# Altium footprint library Package_QFP.PcbLib: 99 footprints (part 3 of 7)
Each footprint in its own frame and in the unit in brackets; x right, y up, seen from the top. Pads: shape width x height; smd on the part's side, far side on the other; paste and mask are expansions set on the pad; w line width, h text height; cw(c..) or ccw(c..) is an arc to the next point about the centre after c.
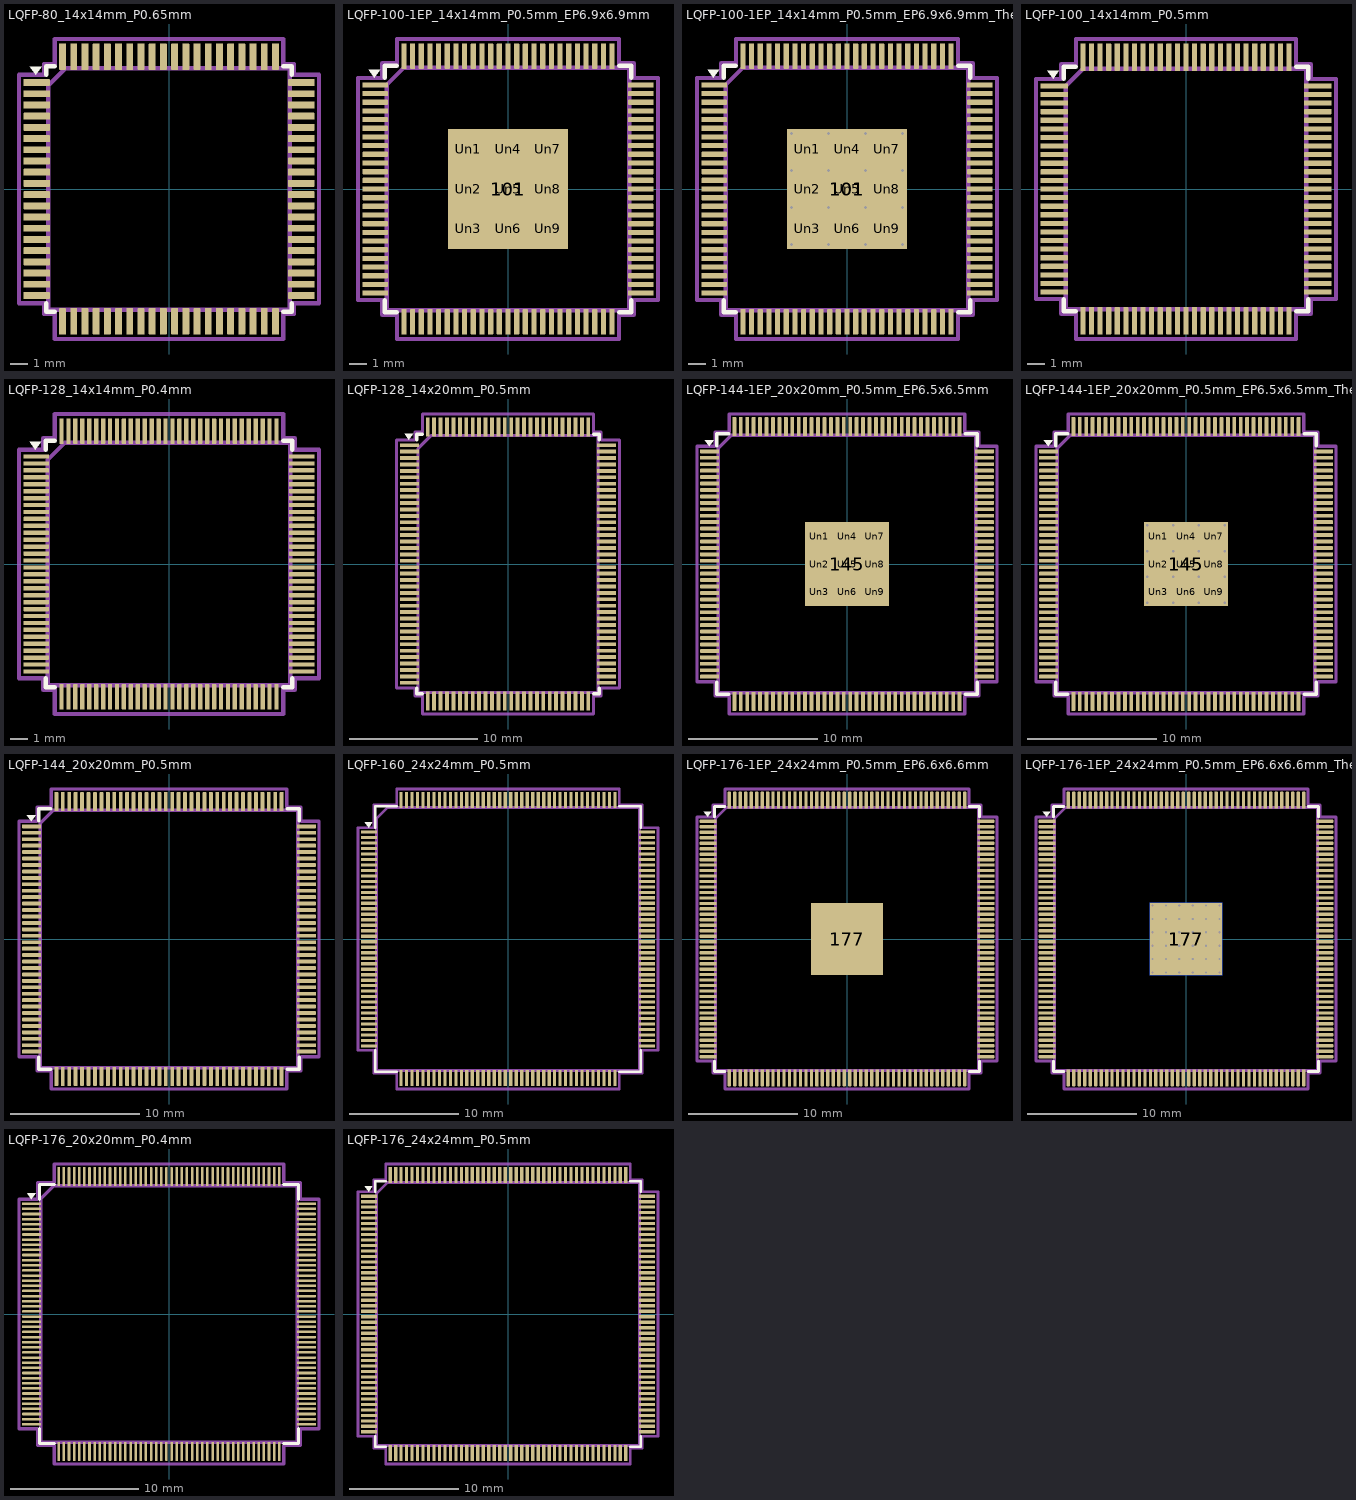
[diagram p2: the footprints below, top view; thin cyan lines are the x and y axes]

## LQFP-80_14x14mm_P0.65mm [mm]
pads (80):
  rrect25% 1.55x0.4 smd: 1(-7.675,6.175) 2(-7.675,5.525) 3(-7.675,4.875) 4(-7.675,4.225) 5(-7.675,3.575) 6(-7.675,2.925) 7(-7.675,2.275) 8(-7.675,1.625) 9(-7.675,0.975) 10(-7.675,0.325) 11(-7.675,-0.325) 12(-7.675,-0.975) 13(-7.675,-1.625) 14(-7.675,-2.275) 15(-7.675,-2.925) 16(-7.675,-3.575) 17(-7.675,-4.225) 18(-7.675,-4.875) 19(-7.675,-5.525) 20(-7.675,-6.175) 41(7.675,-6.175) 42(7.675,-5.525) 43(7.675,-4.875) 44(7.675,-4.225) 45(7.675,-3.575) 46(7.675,-2.925) 47(7.675,-2.275) 48(7.675,-1.625) 49(7.675,-0.975) 50(7.675,-0.325) 51(7.675,0.325) 52(7.675,0.975) 53(7.675,1.625) 54(7.675,2.275) 55(7.675,2.925) 56(7.675,3.575) 57(7.675,4.225) 58(7.675,4.875) 59(7.675,5.525) 60(7.675,6.175)
  rrect25% 0.4x1.55 smd: 21(-6.175,-7.675) 22(-5.525,-7.675) 23(-4.875,-7.675) 24(-4.225,-7.675) 25(-3.575,-7.675) 26(-2.925,-7.675) 27(-2.275,-7.675) 28(-1.625,-7.675) 29(-0.975,-7.675) 30(-0.325,-7.675) 31(0.325,-7.675) 32(0.975,-7.675) 33(1.625,-7.675) 34(2.275,-7.675) 35(2.925,-7.675) 36(3.575,-7.675) 37(4.225,-7.675) 38(4.875,-7.675) 39(5.525,-7.675) 40(6.175,-7.675) 61(6.175,7.675) 62(5.525,7.675) 63(4.875,7.675) 64(4.225,7.675) 65(3.575,7.675) 66(2.925,7.675) 67(2.275,7.675) 68(1.625,7.675) 69(0.975,7.675) 70(0.325,7.675) 71(-0.325,7.675) 72(-0.975,7.675) 73(-1.625,7.675) 74(-2.275,7.675) 75(-2.925,7.675) 76(-3.575,7.675) 77(-4.225,7.675) 78(-4.875,7.675) 79(-5.525,7.675) 80(-6.175,7.675)
F.SilkS:
  region: -7.725,6.635 -8.065,7.105 -7.385,7.105
  lines w0.254: -7.11,-6.635 -7.11,-7.11 -6.635,-7.11 ; -7.11,6.635 -7.11,7.11 -6.635,7.11 ; 6.635,-7.11 7.11,-7.11 7.11,-6.635 ; 6.635,7.11 7.11,7.11 7.11,6.635
Top Assembly:
  lines w0.254: -7,-7 7,-7 7,7 -6,7 -7,6 -7,-7
  text "'.Designator'" at -4.047,-0.84 h1
Top Courtyard:
  lines w0.254: -8.7,-6.63 -7.25,-6.63 -7.25,-7.25 -6.63,-7.25 -6.63,-8.7 6.63,-8.7 6.63,-7.25 7.25,-7.25 7.25,-6.63 8.7,-6.63 8.7,6.63 7.25,6.63 7.25,7.25 6.63,7.25 6.63,8.7 -6.63,8.7 -6.63,7.25 -7.25,7.25 -7.25,6.63 -8.7,6.63 -8.7,-6.63
Top Designator:
  text ".Designator" at -7.618,-0.508 h1.52

## LQFP-100-1EP_14x14mm_P0.5mm_EP6.9x6.9mm [mm]
pads (110):
  rrect25% 1.475x0.3 smd: 1(-7.662,6) 2(-7.662,5.5) 3(-7.662,5) 4(-7.662,4.5) 5(-7.662,4) 6(-7.662,3.5) 7(-7.662,3) 8(-7.662,2.5) 9(-7.662,2) 10(-7.662,1.5) 11(-7.662,1) 12(-7.662,0.5) 13(-7.662,0) 14(-7.662,-0.5) 15(-7.662,-1) 16(-7.662,-1.5) 17(-7.662,-2) 18(-7.662,-2.5) 19(-7.662,-3) 20(-7.662,-3.5) 21(-7.662,-4) 22(-7.662,-4.5) 23(-7.662,-5) 24(-7.662,-5.5) 25(-7.662,-6) 51(7.662,-6) 52(7.662,-5.5) 53(7.662,-5) 54(7.662,-4.5) 55(7.662,-4) 56(7.662,-3.5) 57(7.662,-3) 58(7.662,-2.5) 59(7.662,-2) 60(7.662,-1.5) 61(7.662,-1) 62(7.662,-0.5) 63(7.662,0) 64(7.662,0.5) 65(7.662,1) 66(7.662,1.5) 67(7.662,2) 68(7.662,2.5) 69(7.662,3) 70(7.662,3.5) 71(7.662,4) 72(7.662,4.5) 73(7.662,5) 74(7.662,5.5) 75(7.662,6)
  rrect25% 0.3x1.475 smd: 26(-6,-7.662) 27(-5.5,-7.662) 28(-5,-7.662) 29(-4.5,-7.662) 30(-4,-7.662) 31(-3.5,-7.662) 32(-3,-7.662) 33(-2.5,-7.662) 34(-2,-7.662) 35(-1.5,-7.662) 36(-1,-7.662) 37(-0.5,-7.662) 38(0,-7.662) 39(0.5,-7.662) 40(1,-7.662) 41(1.5,-7.662) 42(2,-7.662) 43(2.5,-7.662) 44(3,-7.662) 45(3.5,-7.662) 46(4,-7.662) 47(4.5,-7.662) 48(5,-7.662) 49(5.5,-7.662) 50(6,-7.662) 76(6,7.662) 77(5.5,7.662) 78(5,7.662) 79(4.5,7.662) 80(4,7.662) 81(3.5,7.662) 82(3,7.662) 83(2.5,7.662) 84(2,7.662) 85(1.5,7.662) 86(1,7.662) 87(0.5,7.662) 88(0,7.662) 89(-0.5,7.662) 90(-1,7.662) 91(-1.5,7.662) 92(-2,7.662) 93(-2.5,7.662) 94(-3,7.662) 95(-3.5,7.662) 96(-4,7.662) 97(-4.5,7.662) 98(-5,7.662) 99(-5.5,7.662) 100(-6,7.662)
  rect 6.9x6.9 smd: 101(0,0)
  rrect14% 1.85x1.85 on Top Paste: Un1(-2.3,2.3) Un2(-2.3,0) Un3(-2.3,-2.3) Un4(0,2.3) Un5(0,0) Un6(0,-2.3) Un7(2.3,2.3) Un8(2.3,0) Un9(2.3,-2.3)
F.SilkS:
  region: -7.7,6.41 -8.04,6.88 -7.36,6.88
  lines w0.254: -7.11,-6.41 -7.11,-7.11 -6.41,-7.11 ; -7.11,6.41 -7.11,7.11 -6.41,7.11 ; 6.41,-7.11 7.11,-7.11 7.11,-6.41 ; 6.41,7.11 7.11,7.11 7.11,6.41
Top Assembly:
  lines w0.254: -7,-7 7,-7 7,7 -6,7 -7,6 -7,-7
  text "'.Designator'" at -4.047,-0.84 h1
Top Courtyard:
  lines w0.254: -8.65,-6.4 -7.25,-6.4 -7.25,-7.25 -6.4,-7.25 -6.4,-8.65 6.4,-8.65 6.4,-7.25 7.25,-7.25 7.25,-6.4 8.65,-6.4 8.65,6.4 7.25,6.4 7.25,7.25 6.4,7.25 6.4,8.65 -6.4,8.65 -6.4,7.25 -7.25,7.25 -7.25,6.4 -8.65,6.4 -8.65,-6.4
Top Designator:
  text ".Designator" at -7.618,-0.508 h1.52

## LQFP-100-1EP_14x14mm_P0.5mm_EP6.9x6.9mm_ThermalVias [mm]
pads (127):
  rrect25% 1.475x0.3 smd: 1(-7.662,6) 2(-7.662,5.5) 3(-7.662,5) 4(-7.662,4.5) 5(-7.662,4) 6(-7.662,3.5) 7(-7.662,3) 8(-7.662,2.5) 9(-7.662,2) 10(-7.662,1.5) 11(-7.662,1) 12(-7.662,0.5) 13(-7.662,0) 14(-7.662,-0.5) 15(-7.662,-1) 16(-7.662,-1.5) 17(-7.662,-2) 18(-7.662,-2.5) 19(-7.662,-3) 20(-7.662,-3.5) 21(-7.662,-4) 22(-7.662,-4.5) 23(-7.662,-5) 24(-7.662,-5.5) 25(-7.662,-6) 51(7.662,-6) 52(7.662,-5.5) 53(7.662,-5) 54(7.662,-4.5) 55(7.662,-4) 56(7.662,-3.5) 57(7.662,-3) 58(7.662,-2.5) 59(7.662,-2) 60(7.662,-1.5) 61(7.662,-1) 62(7.662,-0.5) 63(7.662,0) 64(7.662,0.5) 65(7.662,1) 66(7.662,1.5) 67(7.662,2) 68(7.662,2.5) 69(7.662,3) 70(7.662,3.5) 71(7.662,4) 72(7.662,4.5) 73(7.662,5) 74(7.662,5.5) 75(7.662,6)
  rrect25% 0.3x1.475 smd: 26(-6,-7.662) 27(-5.5,-7.662) 28(-5,-7.662) 29(-4.5,-7.662) 30(-4,-7.662) 31(-3.5,-7.662) 32(-3,-7.662) 33(-2.5,-7.662) 34(-2,-7.662) 35(-1.5,-7.662) 36(-1,-7.662) 37(-0.5,-7.662) 38(0,-7.662) 39(0.5,-7.662) 40(1,-7.662) 41(1.5,-7.662) 42(2,-7.662) 43(2.5,-7.662) 44(3,-7.662) 45(3.5,-7.662) 46(4,-7.662) 47(4.5,-7.662) 48(5,-7.662) 49(5.5,-7.662) 50(6,-7.662) 76(6,7.662) 77(5.5,7.662) 78(5,7.662) 79(4.5,7.662) 80(4,7.662) 81(3.5,7.662) 82(3,7.662) 83(2.5,7.662) 84(2,7.662) 85(1.5,7.662) 86(1,7.662) 87(0.5,7.662) 88(0,7.662) 89(-0.5,7.662) 90(-1,7.662) 91(-1.5,7.662) 92(-2,7.662) 93(-2.5,7.662) 94(-3,7.662) 95(-3.5,7.662) 96(-4,7.662) 97(-4.5,7.662) 98(-5,7.662) 99(-5.5,7.662) 100(-6,7.662)
  round 0.5 hole 0.2: 101(-3.2,-3.2) 101(-3.2,-1.067) 101(-3.2,1.067) 101(-3.2,3.2) 101(-1.067,-3.2) 101(-1.067,-1.067) 101(-1.067,1.067) 101(-1.067,3.2) 101(1.067,-3.2) 101(1.067,-1.067) 101(1.067,1.067) 101(1.067,3.2) 101(3.2,-3.2) 101(3.2,-1.067) 101(3.2,1.067) 101(3.2,3.2)
  rect 6.9x6.9 smd: 101(0,0)
  rect 6.9x6.9 smd far side: 101(0,0)
  rrect14% 1.85x1.85 on Top Paste: Un1(-2.3,2.3) Un2(-2.3,0) Un3(-2.3,-2.3) Un4(0,2.3) Un5(0,0) Un6(0,-2.3) Un7(2.3,2.3) Un8(2.3,0) Un9(2.3,-2.3)
F.SilkS:
  region: -7.7,6.41 -8.04,6.88 -7.36,6.88
  lines w0.254: -7.11,-6.41 -7.11,-7.11 -6.41,-7.11 ; -7.11,6.41 -7.11,7.11 -6.41,7.11 ; 6.41,-7.11 7.11,-7.11 7.11,-6.41 ; 6.41,7.11 7.11,7.11 7.11,6.41
Top Assembly:
  lines w0.254: -7,-7 7,-7 7,7 -6,7 -7,6 -7,-7
  text "'.Designator'" at -4.047,-0.84 h1
Top Courtyard:
  lines w0.254: -8.65,-6.4 -7.25,-6.4 -7.25,-7.25 -6.4,-7.25 -6.4,-8.65 6.4,-8.65 6.4,-7.25 7.25,-7.25 7.25,-6.4 8.65,-6.4 8.65,6.4 7.25,6.4 7.25,7.25 6.4,7.25 6.4,8.65 -6.4,8.65 -6.4,7.25 -7.25,7.25 -7.25,6.4 -8.65,6.4 -8.65,-6.4
Top Designator:
  text ".Designator" at -7.618,-0.508 h1.52

## LQFP-100_14x14mm_P0.5mm [mm]
pads (100):
  rrect25% 1.6x0.3 smd: 1(-7.675,6) 2(-7.675,5.5) 3(-7.675,5) 4(-7.675,4.5) 5(-7.675,4) 6(-7.675,3.5) 7(-7.675,3) 8(-7.675,2.5) 9(-7.675,2) 10(-7.675,1.5) 11(-7.675,1) 12(-7.675,0.5) 13(-7.675,0) 14(-7.675,-0.5) 15(-7.675,-1) 16(-7.675,-1.5) 17(-7.675,-2) 18(-7.675,-2.5) 19(-7.675,-3) 20(-7.675,-3.5) 21(-7.675,-4) 22(-7.675,-4.5) 23(-7.675,-5) 24(-7.675,-5.5) 25(-7.675,-6) 51(7.675,-6) 52(7.675,-5.5) 53(7.675,-5) 54(7.675,-4.5) 55(7.675,-4) 56(7.675,-3.5) 57(7.675,-3) 58(7.675,-2.5) 59(7.675,-2) 60(7.675,-1.5) 61(7.675,-1) 62(7.675,-0.5) 63(7.675,0) 64(7.675,0.5) 65(7.675,1) 66(7.675,1.5) 67(7.675,2) 68(7.675,2.5) 69(7.675,3) 70(7.675,3.5) 71(7.675,4) 72(7.675,4.5) 73(7.675,5) 74(7.675,5.5) 75(7.675,6)
  rrect25% 0.3x1.6 smd: 26(-6,-7.675) 27(-5.5,-7.675) 28(-5,-7.675) 29(-4.5,-7.675) 30(-4,-7.675) 31(-3.5,-7.675) 32(-3,-7.675) 33(-2.5,-7.675) 34(-2,-7.675) 35(-1.5,-7.675) 36(-1,-7.675) 37(-0.5,-7.675) 38(0,-7.675) 39(0.5,-7.675) 40(1,-7.675) 41(1.5,-7.675) 42(2,-7.675) 43(2.5,-7.675) 44(3,-7.675) 45(3.5,-7.675) 46(4,-7.675) 47(4.5,-7.675) 48(5,-7.675) 49(5.5,-7.675) 50(6,-7.675) 76(6,7.675) 77(5.5,7.675) 78(5,7.675) 79(4.5,7.675) 80(4,7.675) 81(3.5,7.675) 82(3,7.675) 83(2.5,7.675) 84(2,7.675) 85(1.5,7.675) 86(1,7.675) 87(0.5,7.675) 88(0,7.675) 89(-0.5,7.675) 90(-1,7.675) 91(-1.5,7.675) 92(-2,7.675) 93(-2.5,7.675) 94(-3,7.675) 95(-3.5,7.675) 96(-4,7.675) 97(-4.5,7.675) 98(-5,7.675) 99(-5.5,7.675) 100(-6,7.675)
F.SilkS:
  region: -7.738,6.41 -8.077,6.88 -7.398,6.88
  lines w0.254: -7.11,-6.41 -7.11,-7.11 -6.41,-7.11 ; -7.11,6.41 -7.11,7.11 -6.41,7.11 ; 6.41,-7.11 7.11,-7.11 7.11,-6.41 ; 6.41,7.11 7.11,7.11 7.11,6.41
Top Assembly:
  lines w0.254: -7,-7 7,-7 7,7 -6,7 -7,6 -7,-7
  text "'.Designator'" at -4.047,-0.84 h1
Top Courtyard:
  lines w0.254: -8.73,-6.4 -7.25,-6.4 -7.25,-7.25 -6.4,-7.25 -6.4,-8.73 6.4,-8.73 6.4,-7.25 7.25,-7.25 7.25,-6.4 8.73,-6.4 8.73,6.4 7.25,6.4 7.25,7.25 6.4,7.25 6.4,8.73 -6.4,8.73 -6.4,7.25 -7.25,7.25 -7.25,6.4 -8.73,6.4 -8.73,-6.4
Top Designator:
  text ".Designator" at -7.618,-0.508 h1.52

## LQFP-128_14x14mm_P0.4mm [mm]
pads (128):
  rrect25% 1.475x0.25 smd: 1(-7.662,6.2) 2(-7.662,5.8) 3(-7.662,5.4) 4(-7.662,5) 5(-7.662,4.6) 6(-7.662,4.2) 7(-7.662,3.8) 8(-7.662,3.4) 9(-7.662,3) 10(-7.662,2.6) 11(-7.662,2.2) 12(-7.662,1.8) 13(-7.662,1.4) 14(-7.662,1) 15(-7.662,0.6) 16(-7.662,0.2) 17(-7.662,-0.2) 18(-7.662,-0.6) 19(-7.662,-1) 20(-7.662,-1.4) 21(-7.662,-1.8) 22(-7.662,-2.2) 23(-7.662,-2.6) 24(-7.662,-3) 25(-7.662,-3.4) 26(-7.662,-3.8) 27(-7.662,-4.2) 28(-7.662,-4.6) 29(-7.662,-5) 30(-7.662,-5.4) 31(-7.662,-5.8) 32(-7.662,-6.2) 65(7.662,-6.2) 66(7.662,-5.8) 67(7.662,-5.4) 68(7.662,-5) 69(7.662,-4.6) 70(7.662,-4.2) 71(7.662,-3.8) 72(7.662,-3.4) 73(7.662,-3) 74(7.662,-2.6) 75(7.662,-2.2) 76(7.662,-1.8) 77(7.662,-1.4) 78(7.662,-1) 79(7.662,-0.6) 80(7.662,-0.2) 81(7.662,0.2) 82(7.662,0.6) 83(7.662,1) 84(7.662,1.4) 85(7.662,1.8) 86(7.662,2.2) 87(7.662,2.6) 88(7.662,3) 89(7.662,3.4) 90(7.662,3.8) 91(7.662,4.2) 92(7.662,4.6) 93(7.662,5) 94(7.662,5.4) 95(7.662,5.8) 96(7.662,6.2)
  rrect25% 0.25x1.475 smd: 33(-6.2,-7.662) 34(-5.8,-7.662) 35(-5.4,-7.662) 36(-5,-7.662) 37(-4.6,-7.662) 38(-4.2,-7.662) 39(-3.8,-7.662) 40(-3.4,-7.662) 41(-3,-7.662) 42(-2.6,-7.662) 43(-2.2,-7.662) 44(-1.8,-7.662) 45(-1.4,-7.662) 46(-1,-7.662) 47(-0.6,-7.662) 48(-0.2,-7.662) 49(0.2,-7.662) 50(0.6,-7.662) 51(1,-7.662) 52(1.4,-7.662) 53(1.8,-7.662) 54(2.2,-7.662) 55(2.6,-7.662) 56(3,-7.662) 57(3.4,-7.662) 58(3.8,-7.662) 59(4.2,-7.662) 60(4.6,-7.662) 61(5,-7.662) 62(5.4,-7.662) 63(5.8,-7.662) 64(6.2,-7.662) 97(6.2,7.662) 98(5.8,7.662) 99(5.4,7.662) 100(5,7.662) 101(4.6,7.662) 102(4.2,7.662) 103(3.8,7.662) 104(3.4,7.662) 105(3,7.662) 106(2.6,7.662) 107(2.2,7.662) 108(1.8,7.662) 109(1.4,7.662) 110(1,7.662) 111(0.6,7.662) 112(0.2,7.662) 113(-0.2,7.662) 114(-0.6,7.662) 115(-1,7.662) 116(-1.4,7.662) 117(-1.8,7.662) 118(-2.2,7.662) 119(-2.6,7.662) 120(-3,7.662) 121(-3.4,7.662) 122(-3.8,7.662) 123(-4.2,7.662) 124(-4.6,7.662) 125(-5,7.662) 126(-5.4,7.662) 127(-5.8,7.662) 128(-6.2,7.662)
F.SilkS:
  region: -7.7,6.585 -8.04,7.055 -7.36,7.055
  lines w0.254: -7.11,-6.585 -7.11,-7.11 -6.585,-7.11 ; -7.11,6.585 -7.11,7.11 -6.585,7.11 ; 6.585,-7.11 7.11,-7.11 7.11,-6.585 ; 6.585,7.11 7.11,7.11 7.11,6.585
Top Assembly:
  lines w0.254: -7,-7 7,-7 7,7 -6,7 -7,6 -7,-7
  text "'.Designator'" at -4.047,-0.84 h1
Top Courtyard:
  lines w0.254: -8.65,-6.58 -7.25,-6.58 -7.25,-7.25 -6.58,-7.25 -6.58,-8.65 6.58,-8.65 6.58,-7.25 7.25,-7.25 7.25,-6.58 8.65,-6.58 8.65,6.58 7.25,6.58 7.25,7.25 6.58,7.25 6.58,8.65 -6.58,8.65 -6.58,7.25 -7.25,7.25 -7.25,6.58 -8.65,6.58 -8.65,-6.58
Top Designator:
  text ".Designator" at -7.618,-0.508 h1.52

## LQFP-128_14x20mm_P0.5mm [mm]
pads (128):
  rrect25% 1.5x0.3 smd: 1(-7.675,9.25) 2(-7.675,8.75) 3(-7.675,8.25) 4(-7.675,7.75) 5(-7.675,7.25) 6(-7.675,6.75) 7(-7.675,6.25) 8(-7.675,5.75) 9(-7.675,5.25) 10(-7.675,4.75) 11(-7.675,4.25) 12(-7.675,3.75) 13(-7.675,3.25) 14(-7.675,2.75) 15(-7.675,2.25) 16(-7.675,1.75) 17(-7.675,1.25) 18(-7.675,0.75) 19(-7.675,0.25) 20(-7.675,-0.25) 21(-7.675,-0.75) 22(-7.675,-1.25) 23(-7.675,-1.75) 24(-7.675,-2.25) 25(-7.675,-2.75) 26(-7.675,-3.25) 27(-7.675,-3.75) 28(-7.675,-4.25) 29(-7.675,-4.75) 30(-7.675,-5.25) 31(-7.675,-5.75) 32(-7.675,-6.25) 33(-7.675,-6.75) 34(-7.675,-7.25) 35(-7.675,-7.75) 36(-7.675,-8.25) 37(-7.675,-8.75) 38(-7.675,-9.25) 65(7.675,-9.25) 66(7.675,-8.75) 67(7.675,-8.25) 68(7.675,-7.75) 69(7.675,-7.25) 70(7.675,-6.75) 71(7.675,-6.25) 72(7.675,-5.75) 73(7.675,-5.25) 74(7.675,-4.75) 75(7.675,-4.25) 76(7.675,-3.75) 77(7.675,-3.25) 78(7.675,-2.75) 79(7.675,-2.25) 80(7.675,-1.75) 81(7.675,-1.25) 82(7.675,-0.75) 83(7.675,-0.25) 84(7.675,0.25) 85(7.675,0.75) 86(7.675,1.25) 87(7.675,1.75) 88(7.675,2.25) 89(7.675,2.75) 90(7.675,3.25) 91(7.675,3.75) 92(7.675,4.25) 93(7.675,4.75) 94(7.675,5.25) 95(7.675,5.75) 96(7.675,6.25) 97(7.675,6.75) 98(7.675,7.25) 99(7.675,7.75) 100(7.675,8.25) 101(7.675,8.75) 102(7.675,9.25)
  rrect25% 0.3x1.5 smd: 39(-6.25,-10.675) 40(-5.75,-10.675) 41(-5.25,-10.675) 42(-4.75,-10.675) 43(-4.25,-10.675) 44(-3.75,-10.675) 45(-3.25,-10.675) 46(-2.75,-10.675) 47(-2.25,-10.675) 48(-1.75,-10.675) 49(-1.25,-10.675) 50(-0.75,-10.675) 51(-0.25,-10.675) 52(0.25,-10.675) 53(0.75,-10.675) 54(1.25,-10.675) 55(1.75,-10.675) 56(2.25,-10.675) 57(2.75,-10.675) 58(3.25,-10.675) 59(3.75,-10.675) 60(4.25,-10.675) 61(4.75,-10.675) 62(5.25,-10.675) 63(5.75,-10.675) 64(6.25,-10.675) 103(6.25,10.675) 104(5.75,10.675) 105(5.25,10.675) 106(4.75,10.675) 107(4.25,10.675) 108(3.75,10.675) 109(3.25,10.675) 110(2.75,10.675) 111(2.25,10.675) 112(1.75,10.675) 113(1.25,10.675) 114(0.75,10.675) 115(0.25,10.675) 116(-0.25,10.675) 117(-0.75,10.675) 118(-1.25,10.675) 119(-1.75,10.675) 120(-2.25,10.675) 121(-2.75,10.675) 122(-3.25,10.675) 123(-3.75,10.675) 124(-4.25,10.675) 125(-4.75,10.675) 126(-5.25,10.675) 127(-5.75,10.675) 128(-6.25,10.675)
F.SilkS:
  region: -7.712,9.66 -8.053,10.13 -7.372,10.13
  lines w0.254: -7.11,-9.66 -7.11,-10.11 -6.66,-10.11 ; -7.11,9.66 -7.11,10.11 -6.66,10.11 ; 6.66,-10.11 7.11,-10.11 7.11,-9.66 ; 6.66,10.11 7.11,10.11 7.11,9.66
Top Assembly:
  lines w0.254: -7,-10 7,-10 7,10 -6,10 -7,9 -7,-10
  text "'.Designator'" at -4.047,-0.84 h1
Top Courtyard:
  lines w0.254: -8.68,-9.65 -7.25,-9.65 -7.25,-10.25 -6.65,-10.25 -6.65,-11.68 6.65,-11.68 6.65,-10.25 7.25,-10.25 7.25,-9.65 8.68,-9.65 8.68,9.65 7.25,9.65 7.25,10.25 6.65,10.25 6.65,11.68 -6.65,11.68 -6.65,10.25 -7.25,10.25 -7.25,9.65 -8.68,9.65 -8.68,-9.65
Top Designator:
  text ".Designator" at -7.618,-0.508 h1.52

## LQFP-144-1EP_20x20mm_P0.5mm_EP6.5x6.5mm [mm]
pads (154):
  rrect25% 1.475x0.3 smd: 1(-10.663,8.75) 2(-10.663,8.25) 3(-10.663,7.75) 4(-10.663,7.25) 5(-10.663,6.75) 6(-10.663,6.25) 7(-10.663,5.75) 8(-10.663,5.25) 9(-10.663,4.75) 10(-10.663,4.25) 11(-10.663,3.75) 12(-10.663,3.25) 13(-10.663,2.75) 14(-10.663,2.25) 15(-10.663,1.75) 16(-10.663,1.25) 17(-10.663,0.75) 18(-10.663,0.25) 19(-10.663,-0.25) 20(-10.663,-0.75) 21(-10.663,-1.25) 22(-10.663,-1.75) 23(-10.663,-2.25) 24(-10.663,-2.75) 25(-10.663,-3.25) 26(-10.663,-3.75) 27(-10.663,-4.25) 28(-10.663,-4.75) 29(-10.663,-5.25) 30(-10.663,-5.75) 31(-10.663,-6.25) 32(-10.663,-6.75) 33(-10.663,-7.25) 34(-10.663,-7.75) 35(-10.663,-8.25) 36(-10.663,-8.75) 73(10.663,-8.75) 74(10.663,-8.25) 75(10.663,-7.75) 76(10.663,-7.25) 77(10.663,-6.75) 78(10.663,-6.25) 79(10.663,-5.75) 80(10.663,-5.25) 81(10.663,-4.75) 82(10.663,-4.25) 83(10.663,-3.75) 84(10.663,-3.25) 85(10.663,-2.75) 86(10.663,-2.25) 87(10.663,-1.75) 88(10.663,-1.25) 89(10.663,-0.75) 90(10.663,-0.25) 91(10.663,0.25) 92(10.663,0.75) 93(10.663,1.25) 94(10.663,1.75) 95(10.663,2.25) 96(10.663,2.75) 97(10.663,3.25) 98(10.663,3.75) 99(10.663,4.25) 100(10.663,4.75) 101(10.663,5.25) 102(10.663,5.75) 103(10.663,6.25) 104(10.663,6.75) 105(10.663,7.25) 106(10.663,7.75) 107(10.663,8.25) 108(10.663,8.75)
  rrect25% 0.3x1.475 smd: 37(-8.75,-10.663) 38(-8.25,-10.663) 39(-7.75,-10.663) 40(-7.25,-10.663) 41(-6.75,-10.663) 42(-6.25,-10.663) 43(-5.75,-10.663) 44(-5.25,-10.663) 45(-4.75,-10.663) 46(-4.25,-10.663) 47(-3.75,-10.663) 48(-3.25,-10.663) 49(-2.75,-10.663) 50(-2.25,-10.663) 51(-1.75,-10.663) 52(-1.25,-10.663) 53(-0.75,-10.663) 54(-0.25,-10.663) 55(0.25,-10.663) 56(0.75,-10.663) 57(1.25,-10.663) 58(1.75,-10.663) 59(2.25,-10.663) 60(2.75,-10.663) 61(3.25,-10.663) 62(3.75,-10.663) 63(4.25,-10.663) 64(4.75,-10.663) 65(5.25,-10.663) 66(5.75,-10.663) 67(6.25,-10.663) 68(6.75,-10.663) 69(7.25,-10.663) 70(7.75,-10.663) 71(8.25,-10.663) 72(8.75,-10.663) 109(8.75,10.663) 110(8.25,10.663) 111(7.75,10.663) 112(7.25,10.663) 113(6.75,10.663) 114(6.25,10.663) 115(5.75,10.663) 116(5.25,10.663) 117(4.75,10.663) 118(4.25,10.663) 119(3.75,10.663) 120(3.25,10.663) 121(2.75,10.663) 122(2.25,10.663) 123(1.75,10.663) 124(1.25,10.663) 125(0.75,10.663) 126(0.25,10.663) 127(-0.25,10.663) 128(-0.75,10.663) 129(-1.25,10.663) 130(-1.75,10.663) 131(-2.25,10.663) 132(-2.75,10.663) 133(-3.25,10.663) 134(-3.75,10.663) 135(-4.25,10.663) 136(-4.75,10.663) 137(-5.25,10.663) 138(-5.75,10.663) 139(-6.25,10.663) 140(-6.75,10.663) 141(-7.25,10.663) 142(-7.75,10.663) 143(-8.25,10.663) 144(-8.75,10.663)
  rect 6.5x6.5 smd: 145(0,0)
  rrect14% 1.75x1.75 on Top Paste: Un1(-2.17,2.17) Un2(-2.17,0) Un3(-2.17,-2.17) Un4(0,2.17) Un5(0,0) Un6(0,-2.17) Un7(2.17,2.17) Un8(2.17,0) Un9(2.17,-2.17)
F.SilkS:
  region: -10.7,9.16 -11.04,9.63 -10.36,9.63
  lines w0.254: -10.11,-9.16 -10.11,-10.11 -9.16,-10.11 ; -10.11,9.16 -10.11,10.11 -9.16,10.11 ; 9.16,-10.11 10.11,-10.11 10.11,-9.16 ; 9.16,10.11 10.11,10.11 10.11,9.16
Top Assembly:
  lines w0.254: -10,-10 10,-10 10,10 -9,10 -10,9 -10,-10
  text "'.Designator'" at -4.047,-0.84 h1
Top Courtyard:
  lines w0.254: -11.65,-9.15 -10.25,-9.15 -10.25,-10.25 -9.15,-10.25 -9.15,-11.65 9.15,-11.65 9.15,-10.25 10.25,-10.25 10.25,-9.15 11.65,-9.15 11.65,9.15 10.25,9.15 10.25,10.25 9.15,10.25 9.15,11.65 -9.15,11.65 -9.15,10.25 -10.25,10.25 -10.25,9.15 -11.65,9.15 -11.65,-9.15
Top Designator:
  text ".Designator" at -7.618,-0.508 h1.52

## LQFP-144-1EP_20x20mm_P0.5mm_EP6.5x6.5mm_ThermalVias [mm]
pads (171):
  rrect25% 1.475x0.3 smd: 1(-10.663,8.75) 2(-10.663,8.25) 3(-10.663,7.75) 4(-10.663,7.25) 5(-10.663,6.75) 6(-10.663,6.25) 7(-10.663,5.75) 8(-10.663,5.25) 9(-10.663,4.75) 10(-10.663,4.25) 11(-10.663,3.75) 12(-10.663,3.25) 13(-10.663,2.75) 14(-10.663,2.25) 15(-10.663,1.75) 16(-10.663,1.25) 17(-10.663,0.75) 18(-10.663,0.25) 19(-10.663,-0.25) 20(-10.663,-0.75) 21(-10.663,-1.25) 22(-10.663,-1.75) 23(-10.663,-2.25) 24(-10.663,-2.75) 25(-10.663,-3.25) 26(-10.663,-3.75) 27(-10.663,-4.25) 28(-10.663,-4.75) 29(-10.663,-5.25) 30(-10.663,-5.75) 31(-10.663,-6.25) 32(-10.663,-6.75) 33(-10.663,-7.25) 34(-10.663,-7.75) 35(-10.663,-8.25) 36(-10.663,-8.75) 73(10.663,-8.75) 74(10.663,-8.25) 75(10.663,-7.75) 76(10.663,-7.25) 77(10.663,-6.75) 78(10.663,-6.25) 79(10.663,-5.75) 80(10.663,-5.25) 81(10.663,-4.75) 82(10.663,-4.25) 83(10.663,-3.75) 84(10.663,-3.25) 85(10.663,-2.75) 86(10.663,-2.25) 87(10.663,-1.75) 88(10.663,-1.25) 89(10.663,-0.75) 90(10.663,-0.25) 91(10.663,0.25) 92(10.663,0.75) 93(10.663,1.25) 94(10.663,1.75) 95(10.663,2.25) 96(10.663,2.75) 97(10.663,3.25) 98(10.663,3.75) 99(10.663,4.25) 100(10.663,4.75) 101(10.663,5.25) 102(10.663,5.75) 103(10.663,6.25) 104(10.663,6.75) 105(10.663,7.25) 106(10.663,7.75) 107(10.663,8.25) 108(10.663,8.75)
  rrect25% 0.3x1.475 smd: 37(-8.75,-10.663) 38(-8.25,-10.663) 39(-7.75,-10.663) 40(-7.25,-10.663) 41(-6.75,-10.663) 42(-6.25,-10.663) 43(-5.75,-10.663) 44(-5.25,-10.663) 45(-4.75,-10.663) 46(-4.25,-10.663) 47(-3.75,-10.663) 48(-3.25,-10.663) 49(-2.75,-10.663) 50(-2.25,-10.663) 51(-1.75,-10.663) 52(-1.25,-10.663) 53(-0.75,-10.663) 54(-0.25,-10.663) 55(0.25,-10.663) 56(0.75,-10.663) 57(1.25,-10.663) 58(1.75,-10.663) 59(2.25,-10.663) 60(2.75,-10.663) 61(3.25,-10.663) 62(3.75,-10.663) 63(4.25,-10.663) 64(4.75,-10.663) 65(5.25,-10.663) 66(5.75,-10.663) 67(6.25,-10.663) 68(6.75,-10.663) 69(7.25,-10.663) 70(7.75,-10.663) 71(8.25,-10.663) 72(8.75,-10.663) 109(8.75,10.663) 110(8.25,10.663) 111(7.75,10.663) 112(7.25,10.663) 113(6.75,10.663) 114(6.25,10.663) 115(5.75,10.663) 116(5.25,10.663) 117(4.75,10.663) 118(4.25,10.663) 119(3.75,10.663) 120(3.25,10.663) 121(2.75,10.663) 122(2.25,10.663) 123(1.75,10.663) 124(1.25,10.663) 125(0.75,10.663) 126(0.25,10.663) 127(-0.25,10.663) 128(-0.75,10.663) 129(-1.25,10.663) 130(-1.75,10.663) 131(-2.25,10.663) 132(-2.75,10.663) 133(-3.25,10.663) 134(-3.75,10.663) 135(-4.25,10.663) 136(-4.75,10.663) 137(-5.25,10.663) 138(-5.75,10.663) 139(-6.25,10.663) 140(-6.75,10.663) 141(-7.25,10.663) 142(-7.75,10.663) 143(-8.25,10.663) 144(-8.75,10.663)
  round 0.5 hole 0.2: 145(-3,-3) 145(-3,-1) 145(-3,1) 145(-3,3) 145(-1,-3) 145(-1,-1) 145(-1,1) 145(-1,3) 145(1,-3) 145(1,-1) 145(1,1) 145(1,3) 145(3,-3) 145(3,-1) 145(3,1) 145(3,3)
  rect 6.5x6.5 smd: 145(0,0)
  rect 6.5x6.5 smd far side: 145(0,0)
  rrect14% 1.75x1.75 on Top Paste: Un1(-2.17,2.17) Un2(-2.17,0) Un3(-2.17,-2.17) Un4(0,2.17) Un5(0,0) Un6(0,-2.17) Un7(2.17,2.17) Un8(2.17,0) Un9(2.17,-2.17)
F.SilkS:
  region: -10.7,9.16 -11.04,9.63 -10.36,9.63
  lines w0.254: -10.11,-9.16 -10.11,-10.11 -9.16,-10.11 ; -10.11,9.16 -10.11,10.11 -9.16,10.11 ; 9.16,-10.11 10.11,-10.11 10.11,-9.16 ; 9.16,10.11 10.11,10.11 10.11,9.16
Top Assembly:
  lines w0.254: -10,-10 10,-10 10,10 -9,10 -10,9 -10,-10
  text "'.Designator'" at -4.047,-0.84 h1
Top Courtyard:
  lines w0.254: -11.65,-9.15 -10.25,-9.15 -10.25,-10.25 -9.15,-10.25 -9.15,-11.65 9.15,-11.65 9.15,-10.25 10.25,-10.25 10.25,-9.15 11.65,-9.15 11.65,9.15 10.25,9.15 10.25,10.25 9.15,10.25 9.15,11.65 -9.15,11.65 -9.15,10.25 -10.25,10.25 -10.25,9.15 -11.65,9.15 -11.65,-9.15
Top Designator:
  text ".Designator" at -7.618,-0.508 h1.52

## LQFP-144_20x20mm_P0.5mm [mm]
pads (144):
  rrect25% 1.475x0.3 smd: 1(-10.663,8.75) 2(-10.663,8.25) 3(-10.663,7.75) 4(-10.663,7.25) 5(-10.663,6.75) 6(-10.663,6.25) 7(-10.663,5.75) 8(-10.663,5.25) 9(-10.663,4.75) 10(-10.663,4.25) 11(-10.663,3.75) 12(-10.663,3.25) 13(-10.663,2.75) 14(-10.663,2.25) 15(-10.663,1.75) 16(-10.663,1.25) 17(-10.663,0.75) 18(-10.663,0.25) 19(-10.663,-0.25) 20(-10.663,-0.75) 21(-10.663,-1.25) 22(-10.663,-1.75) 23(-10.663,-2.25) 24(-10.663,-2.75) 25(-10.663,-3.25) 26(-10.663,-3.75) 27(-10.663,-4.25) 28(-10.663,-4.75) 29(-10.663,-5.25) 30(-10.663,-5.75) 31(-10.663,-6.25) 32(-10.663,-6.75) 33(-10.663,-7.25) 34(-10.663,-7.75) 35(-10.663,-8.25) 36(-10.663,-8.75) 73(10.663,-8.75) 74(10.663,-8.25) 75(10.663,-7.75) 76(10.663,-7.25) 77(10.663,-6.75) 78(10.663,-6.25) 79(10.663,-5.75) 80(10.663,-5.25) 81(10.663,-4.75) 82(10.663,-4.25) 83(10.663,-3.75) 84(10.663,-3.25) 85(10.663,-2.75) 86(10.663,-2.25) 87(10.663,-1.75) 88(10.663,-1.25) 89(10.663,-0.75) 90(10.663,-0.25) 91(10.663,0.25) 92(10.663,0.75) 93(10.663,1.25) 94(10.663,1.75) 95(10.663,2.25) 96(10.663,2.75) 97(10.663,3.25) 98(10.663,3.75) 99(10.663,4.25) 100(10.663,4.75) 101(10.663,5.25) 102(10.663,5.75) 103(10.663,6.25) 104(10.663,6.75) 105(10.663,7.25) 106(10.663,7.75) 107(10.663,8.25) 108(10.663,8.75)
  rrect25% 0.3x1.475 smd: 37(-8.75,-10.663) 38(-8.25,-10.663) 39(-7.75,-10.663) 40(-7.25,-10.663) 41(-6.75,-10.663) 42(-6.25,-10.663) 43(-5.75,-10.663) 44(-5.25,-10.663) 45(-4.75,-10.663) 46(-4.25,-10.663) 47(-3.75,-10.663) 48(-3.25,-10.663) 49(-2.75,-10.663) 50(-2.25,-10.663) 51(-1.75,-10.663) 52(-1.25,-10.663) 53(-0.75,-10.663) 54(-0.25,-10.663) 55(0.25,-10.663) 56(0.75,-10.663) 57(1.25,-10.663) 58(1.75,-10.663) 59(2.25,-10.663) 60(2.75,-10.663) 61(3.25,-10.663) 62(3.75,-10.663) 63(4.25,-10.663) 64(4.75,-10.663) 65(5.25,-10.663) 66(5.75,-10.663) 67(6.25,-10.663) 68(6.75,-10.663) 69(7.25,-10.663) 70(7.75,-10.663) 71(8.25,-10.663) 72(8.75,-10.663) 109(8.75,10.663) 110(8.25,10.663) 111(7.75,10.663) 112(7.25,10.663) 113(6.75,10.663) 114(6.25,10.663) 115(5.75,10.663) 116(5.25,10.663) 117(4.75,10.663) 118(4.25,10.663) 119(3.75,10.663) 120(3.25,10.663) 121(2.75,10.663) 122(2.25,10.663) 123(1.75,10.663) 124(1.25,10.663) 125(0.75,10.663) 126(0.25,10.663) 127(-0.25,10.663) 128(-0.75,10.663) 129(-1.25,10.663) 130(-1.75,10.663) 131(-2.25,10.663) 132(-2.75,10.663) 133(-3.25,10.663) 134(-3.75,10.663) 135(-4.25,10.663) 136(-4.75,10.663) 137(-5.25,10.663) 138(-5.75,10.663) 139(-6.25,10.663) 140(-6.75,10.663) 141(-7.25,10.663) 142(-7.75,10.663) 143(-8.25,10.663) 144(-8.75,10.663)
F.SilkS:
  region: -10.7,9.16 -11.04,9.63 -10.36,9.63
  lines w0.254: -10.11,-9.16 -10.11,-10.11 -9.16,-10.11 ; -10.11,9.16 -10.11,10.11 -9.16,10.11 ; 9.16,-10.11 10.11,-10.11 10.11,-9.16 ; 9.16,10.11 10.11,10.11 10.11,9.16
Top Assembly:
  lines w0.254: -10,-10 10,-10 10,10 -9,10 -10,9 -10,-10
  text "'.Designator'" at -4.047,-0.84 h1
Top Courtyard:
  lines w0.254: -11.65,-9.15 -10.25,-9.15 -10.25,-10.25 -9.15,-10.25 -9.15,-11.65 9.15,-11.65 9.15,-10.25 10.25,-10.25 10.25,-9.15 11.65,-9.15 11.65,9.15 10.25,9.15 10.25,10.25 9.15,10.25 9.15,11.65 -9.15,11.65 -9.15,10.25 -10.25,10.25 -10.25,9.15 -11.65,9.15 -11.65,-9.15
Top Designator:
  text ".Designator" at -7.618,-0.508 h1.52

## LQFP-160_24x24mm_P0.5mm [mm]
pads (160):
  rrect25% 1.5x0.3 smd: 1(-12.675,9.75) 2(-12.675,9.25) 3(-12.675,8.75) 4(-12.675,8.25) 5(-12.675,7.75) 6(-12.675,7.25) 7(-12.675,6.75) 8(-12.675,6.25) 9(-12.675,5.75) 10(-12.675,5.25) 11(-12.675,4.75) 12(-12.675,4.25) 13(-12.675,3.75) 14(-12.675,3.25) 15(-12.675,2.75) 16(-12.675,2.25) 17(-12.675,1.75) 18(-12.675,1.25) 19(-12.675,0.75) 20(-12.675,0.25) 21(-12.675,-0.25) 22(-12.675,-0.75) 23(-12.675,-1.25) 24(-12.675,-1.75) 25(-12.675,-2.25) 26(-12.675,-2.75) 27(-12.675,-3.25) 28(-12.675,-3.75) 29(-12.675,-4.25) 30(-12.675,-4.75) 31(-12.675,-5.25) 32(-12.675,-5.75) 33(-12.675,-6.25) 34(-12.675,-6.75) 35(-12.675,-7.25) 36(-12.675,-7.75) 37(-12.675,-8.25) 38(-12.675,-8.75) 39(-12.675,-9.25) 40(-12.675,-9.75) 81(12.675,-9.75) 82(12.675,-9.25) 83(12.675,-8.75) 84(12.675,-8.25) 85(12.675,-7.75) 86(12.675,-7.25) 87(12.675,-6.75) 88(12.675,-6.25) 89(12.675,-5.75) 90(12.675,-5.25) 91(12.675,-4.75) 92(12.675,-4.25) 93(12.675,-3.75) 94(12.675,-3.25) 95(12.675,-2.75) 96(12.675,-2.25) 97(12.675,-1.75) 98(12.675,-1.25) 99(12.675,-0.75) 100(12.675,-0.25) 101(12.675,0.25) 102(12.675,0.75) 103(12.675,1.25) 104(12.675,1.75) 105(12.675,2.25) 106(12.675,2.75) 107(12.675,3.25) 108(12.675,3.75) 109(12.675,4.25) 110(12.675,4.75) 111(12.675,5.25) 112(12.675,5.75) 113(12.675,6.25) 114(12.675,6.75) 115(12.675,7.25) 116(12.675,7.75) 117(12.675,8.25) 118(12.675,8.75) 119(12.675,9.25) 120(12.675,9.75)
  rrect25% 0.3x1.5 smd: 41(-9.75,-12.675) 42(-9.25,-12.675) 43(-8.75,-12.675) 44(-8.25,-12.675) 45(-7.75,-12.675) 46(-7.25,-12.675) 47(-6.75,-12.675) 48(-6.25,-12.675) 49(-5.75,-12.675) 50(-5.25,-12.675) 51(-4.75,-12.675) 52(-4.25,-12.675) 53(-3.75,-12.675) 54(-3.25,-12.675) 55(-2.75,-12.675) 56(-2.25,-12.675) 57(-1.75,-12.675) 58(-1.25,-12.675) 59(-0.75,-12.675) 60(-0.25,-12.675) 61(0.25,-12.675) 62(0.75,-12.675) 63(1.25,-12.675) 64(1.75,-12.675) 65(2.25,-12.675) 66(2.75,-12.675) 67(3.25,-12.675) 68(3.75,-12.675) 69(4.25,-12.675) 70(4.75,-12.675) 71(5.25,-12.675) 72(5.75,-12.675) 73(6.25,-12.675) 74(6.75,-12.675) 75(7.25,-12.675) 76(7.75,-12.675) 77(8.25,-12.675) 78(8.75,-12.675) 79(9.25,-12.675) 80(9.75,-12.675) 121(9.75,12.675) 122(9.25,12.675) 123(8.75,12.675) 124(8.25,12.675) 125(7.75,12.675) 126(7.25,12.675) 127(6.75,12.675) 128(6.25,12.675) 129(5.75,12.675) 130(5.25,12.675) 131(4.75,12.675) 132(4.25,12.675) 133(3.75,12.675) 134(3.25,12.675) 135(2.75,12.675) 136(2.25,12.675) 137(1.75,12.675) 138(1.25,12.675) 139(0.75,12.675) 140(0.25,12.675) 141(-0.25,12.675) 142(-0.75,12.675) 143(-1.25,12.675) 144(-1.75,12.675) 145(-2.25,12.675) 146(-2.75,12.675) 147(-3.25,12.675) 148(-3.75,12.675) 149(-4.25,12.675) 150(-4.75,12.675) 151(-5.25,12.675) 152(-5.75,12.675) 153(-6.25,12.675) 154(-6.75,12.675) 155(-7.25,12.675) 156(-7.75,12.675) 157(-8.25,12.675) 158(-8.75,12.675) 159(-9.25,12.675) 160(-9.75,12.675)
F.SilkS:
  region: -12.712,10.16 -13.053,10.63 -12.373,10.63
  lines w0.254: -12.11,-10.16 -12.11,-12.11 -10.16,-12.11 ; -12.11,10.16 -12.11,12.11 -10.16,12.11 ; 10.16,-12.11 12.11,-12.11 12.11,-10.16 ; 10.16,12.11 12.11,12.11 12.11,10.16
Top Assembly:
  lines w0.254: -12,-12 12,-12 12,12 -11,12 -12,11 -12,-12
  text "'.Designator'" at -4.047,-0.84 h1
Top Courtyard:
  lines w0.254: -13.68,-10.15 -12.25,-10.15 -12.25,-12.25 -10.15,-12.25 -10.15,-13.68 10.15,-13.68 10.15,-12.25 12.25,-12.25 12.25,-10.15 13.68,-10.15 13.68,10.15 12.25,10.15 12.25,12.25 10.15,12.25 10.15,13.68 -10.15,13.68 -10.15,12.25 -12.25,12.25 -12.25,10.15 -13.68,10.15 -13.68,-10.15
Top Designator:
  text ".Designator" at -7.618,-0.508 h1.52

## LQFP-176-1EP_24x24mm_P0.5mm_EP6.6x6.6mm [mm]
pads (202):
  rrect25% 1.55x0.3 smd: 1(-12.675,10.75) 2(-12.675,10.25) 3(-12.675,9.75) 4(-12.675,9.25) 5(-12.675,8.75) 6(-12.675,8.25) 7(-12.675,7.75) 8(-12.675,7.25) 9(-12.675,6.75) 10(-12.675,6.25) 11(-12.675,5.75) 12(-12.675,5.25) 13(-12.675,4.75) 14(-12.675,4.25) 15(-12.675,3.75) 16(-12.675,3.25) 17(-12.675,2.75) 18(-12.675,2.25) 19(-12.675,1.75) 20(-12.675,1.25) 21(-12.675,0.75) 22(-12.675,0.25) 23(-12.675,-0.25) 24(-12.675,-0.75) 25(-12.675,-1.25) 26(-12.675,-1.75) 27(-12.675,-2.25) 28(-12.675,-2.75) 29(-12.675,-3.25) 30(-12.675,-3.75) 31(-12.675,-4.25) 32(-12.675,-4.75) 33(-12.675,-5.25) 34(-12.675,-5.75) 35(-12.675,-6.25) 36(-12.675,-6.75) 37(-12.675,-7.25) 38(-12.675,-7.75) 39(-12.675,-8.25) 40(-12.675,-8.75) 41(-12.675,-9.25) 42(-12.675,-9.75) 43(-12.675,-10.25) 44(-12.675,-10.75) 89(12.675,-10.75) 90(12.675,-10.25) 91(12.675,-9.75) 92(12.675,-9.25) 93(12.675,-8.75) 94(12.675,-8.25) 95(12.675,-7.75) 96(12.675,-7.25) 97(12.675,-6.75) 98(12.675,-6.25) 99(12.675,-5.75) 100(12.675,-5.25) 101(12.675,-4.75) 102(12.675,-4.25) 103(12.675,-3.75) 104(12.675,-3.25) 105(12.675,-2.75) 106(12.675,-2.25) 107(12.675,-1.75) 108(12.675,-1.25) 109(12.675,-0.75) 110(12.675,-0.25) 111(12.675,0.25) 112(12.675,0.75) 113(12.675,1.25) 114(12.675,1.75) 115(12.675,2.25) 116(12.675,2.75) 117(12.675,3.25) 118(12.675,3.75) 119(12.675,4.25) 120(12.675,4.75) 121(12.675,5.25) 122(12.675,5.75) 123(12.675,6.25) 124(12.675,6.75) 125(12.675,7.25) 126(12.675,7.75) 127(12.675,8.25) 128(12.675,8.75) 129(12.675,9.25) 130(12.675,9.75) 131(12.675,10.25) 132(12.675,10.75)
  rrect25% 0.3x1.55 smd: 45(-10.75,-12.675) 46(-10.25,-12.675) 47(-9.75,-12.675) 48(-9.25,-12.675) 49(-8.75,-12.675) 50(-8.25,-12.675) 51(-7.75,-12.675) 52(-7.25,-12.675) 53(-6.75,-12.675) 54(-6.25,-12.675) 55(-5.75,-12.675) 56(-5.25,-12.675) 57(-4.75,-12.675) 58(-4.25,-12.675) 59(-3.75,-12.675) 60(-3.25,-12.675) 61(-2.75,-12.675) 62(-2.25,-12.675) 63(-1.75,-12.675) 64(-1.25,-12.675) 65(-0.75,-12.675) 66(-0.25,-12.675) 67(0.25,-12.675) 68(0.75,-12.675) 69(1.25,-12.675) 70(1.75,-12.675) 71(2.25,-12.675) 72(2.75,-12.675) 73(3.25,-12.675) 74(3.75,-12.675) 75(4.25,-12.675) 76(4.75,-12.675) 77(5.25,-12.675) 78(5.75,-12.675) 79(6.25,-12.675) 80(6.75,-12.675) 81(7.25,-12.675) 82(7.75,-12.675) 83(8.25,-12.675) 84(8.75,-12.675) 85(9.25,-12.675) 86(9.75,-12.675) 87(10.25,-12.675) 88(10.75,-12.675) 133(10.75,12.675) 134(10.25,12.675) 135(9.75,12.675) 136(9.25,12.675) 137(8.75,12.675) 138(8.25,12.675) 139(7.75,12.675) 140(7.25,12.675) 141(6.75,12.675) 142(6.25,12.675) 143(5.75,12.675) 144(5.25,12.675) 145(4.75,12.675) 146(4.25,12.675) 147(3.75,12.675) 148(3.25,12.675) 149(2.75,12.675) 150(2.25,12.675) 151(1.75,12.675) 152(1.25,12.675) 153(0.75,12.675) 154(0.25,12.675) 155(-0.25,12.675) 156(-0.75,12.675) 157(-1.25,12.675) 158(-1.75,12.675) 159(-2.25,12.675) 160(-2.75,12.675) 161(-3.25,12.675) 162(-3.75,12.675) 163(-4.25,12.675) 164(-4.75,12.675) 165(-5.25,12.675) 166(-5.75,12.675) 167(-6.25,12.675) 168(-6.75,12.675) 169(-7.25,12.675) 170(-7.75,12.675) 171(-8.25,12.675) 172(-8.75,12.675) 173(-9.25,12.675) 174(-9.75,12.675) 175(-10.25,12.675) 176(-10.75,12.675)
  rect 6.6x6.6 smd: 177(0,0)
  rrect24% 1.06x1.06 on Top Paste: Un1(-2.64,2.64) Un2(-2.64,1.32) Un3(-2.64,0) Un4(-2.64,-1.32) Un5(-2.64,-2.64) Un6(-1.32,2.64) Un7(-1.32,1.32) Un8(-1.32,0) Un9(-1.32,-1.32) Un10(-1.32,-2.64) Un11(0,2.64) Un12(0,1.32) Un13(0,0) Un14(0,-1.32) Un15(0,-2.64) Un16(1.32,2.64) Un17(1.32,1.32) Un18(1.32,0) Un19(1.32,-1.32) Un20(1.32,-2.64) Un21(2.64,2.64) Un22(2.64,1.32) Un23(2.64,0) Un24(2.64,-1.32) Un25(2.64,-2.64)
F.SilkS:
  region: -12.725,11.16 -13.065,11.63 -12.385,11.63
  lines w0.254: -12.11,-11.16 -12.11,-12.11 -11.16,-12.11 ; -12.11,11.16 -12.11,12.11 -11.16,12.11 ; 11.16,-12.11 12.11,-12.11 12.11,-11.16 ; 11.16,12.11 12.11,12.11 12.11,11.16
Top Assembly:
  lines w0.254: -12,-12 12,-12 12,12 -11,12 -12,11 -12,-12
  text "'.Designator'" at -4.047,-0.84 h1
Top Courtyard:
  lines w0.254: -13.7,-11.15 -12.25,-11.15 -12.25,-12.25 -11.15,-12.25 -11.15,-13.7 11.15,-13.7 11.15,-12.25 12.25,-12.25 12.25,-11.15 13.7,-11.15 13.7,11.15 12.25,11.15 12.25,12.25 11.15,12.25 11.15,13.7 -11.15,13.7 -11.15,12.25 -12.25,12.25 -12.25,11.15 -13.7,11.15 -13.7,-11.15
Top Designator:
  text ".Designator" at -7.618,-0.508 h1.52

## LQFP-176-1EP_24x24mm_P0.5mm_EP6.6x6.6mm_ThermalVias [mm]
pads (239):
  rrect25% 1.55x0.3 smd: 1(-12.675,10.75) 2(-12.675,10.25) 3(-12.675,9.75) 4(-12.675,9.25) 5(-12.675,8.75) 6(-12.675,8.25) 7(-12.675,7.75) 8(-12.675,7.25) 9(-12.675,6.75) 10(-12.675,6.25) 11(-12.675,5.75) 12(-12.675,5.25) 13(-12.675,4.75) 14(-12.675,4.25) 15(-12.675,3.75) 16(-12.675,3.25) 17(-12.675,2.75) 18(-12.675,2.25) 19(-12.675,1.75) 20(-12.675,1.25) 21(-12.675,0.75) 22(-12.675,0.25) 23(-12.675,-0.25) 24(-12.675,-0.75) 25(-12.675,-1.25) 26(-12.675,-1.75) 27(-12.675,-2.25) 28(-12.675,-2.75) 29(-12.675,-3.25) 30(-12.675,-3.75) 31(-12.675,-4.25) 32(-12.675,-4.75) 33(-12.675,-5.25) 34(-12.675,-5.75) 35(-12.675,-6.25) 36(-12.675,-6.75) 37(-12.675,-7.25) 38(-12.675,-7.75) 39(-12.675,-8.25) 40(-12.675,-8.75) 41(-12.675,-9.25) 42(-12.675,-9.75) 43(-12.675,-10.25) 44(-12.675,-10.75) 89(12.675,-10.75) 90(12.675,-10.25) 91(12.675,-9.75) 92(12.675,-9.25) 93(12.675,-8.75) 94(12.675,-8.25) 95(12.675,-7.75) 96(12.675,-7.25) 97(12.675,-6.75) 98(12.675,-6.25) 99(12.675,-5.75) 100(12.675,-5.25) 101(12.675,-4.75) 102(12.675,-4.25) 103(12.675,-3.75) 104(12.675,-3.25) 105(12.675,-2.75) 106(12.675,-2.25) 107(12.675,-1.75) 108(12.675,-1.25) 109(12.675,-0.75) 110(12.675,-0.25) 111(12.675,0.25) 112(12.675,0.75) 113(12.675,1.25) 114(12.675,1.75) 115(12.675,2.25) 116(12.675,2.75) 117(12.675,3.25) 118(12.675,3.75) 119(12.675,4.25) 120(12.675,4.75) 121(12.675,5.25) 122(12.675,5.75) 123(12.675,6.25) 124(12.675,6.75) 125(12.675,7.25) 126(12.675,7.75) 127(12.675,8.25) 128(12.675,8.75) 129(12.675,9.25) 130(12.675,9.75) 131(12.675,10.25) 132(12.675,10.75)
  rrect25% 0.3x1.55 smd: 45(-10.75,-12.675) 46(-10.25,-12.675) 47(-9.75,-12.675) 48(-9.25,-12.675) 49(-8.75,-12.675) 50(-8.25,-12.675) 51(-7.75,-12.675) 52(-7.25,-12.675) 53(-6.75,-12.675) 54(-6.25,-12.675) 55(-5.75,-12.675) 56(-5.25,-12.675) 57(-4.75,-12.675) 58(-4.25,-12.675) 59(-3.75,-12.675) 60(-3.25,-12.675) 61(-2.75,-12.675) 62(-2.25,-12.675) 63(-1.75,-12.675) 64(-1.25,-12.675) 65(-0.75,-12.675) 66(-0.25,-12.675) 67(0.25,-12.675) 68(0.75,-12.675) 69(1.25,-12.675) 70(1.75,-12.675) 71(2.25,-12.675) 72(2.75,-12.675) 73(3.25,-12.675) 74(3.75,-12.675) 75(4.25,-12.675) 76(4.75,-12.675) 77(5.25,-12.675) 78(5.75,-12.675) 79(6.25,-12.675) 80(6.75,-12.675) 81(7.25,-12.675) 82(7.75,-12.675) 83(8.25,-12.675) 84(8.75,-12.675) 85(9.25,-12.675) 86(9.75,-12.675) 87(10.25,-12.675) 88(10.75,-12.675) 133(10.75,12.675) 134(10.25,12.675) 135(9.75,12.675) 136(9.25,12.675) 137(8.75,12.675) 138(8.25,12.675) 139(7.75,12.675) 140(7.25,12.675) 141(6.75,12.675) 142(6.25,12.675) 143(5.75,12.675) 144(5.25,12.675) 145(4.75,12.675) 146(4.25,12.675) 147(3.75,12.675) 148(3.25,12.675) 149(2.75,12.675) 150(2.25,12.675) 151(1.75,12.675) 152(1.25,12.675) 153(0.75,12.675) 154(0.25,12.675) 155(-0.25,12.675) 156(-0.75,12.675) 157(-1.25,12.675) 158(-1.75,12.675) 159(-2.25,12.675) 160(-2.75,12.675) 161(-3.25,12.675) 162(-3.75,12.675) 163(-4.25,12.675) 164(-4.75,12.675) 165(-5.25,12.675) 166(-5.75,12.675) 167(-6.25,12.675) 168(-6.75,12.675) 169(-7.25,12.675) 170(-7.75,12.675) 171(-8.25,12.675) 172(-8.75,12.675) 173(-9.25,12.675) 174(-9.75,12.675) 175(-10.25,12.675) 176(-10.75,12.675)
  round 0.5 hole 0.2: 177(-3.05,-3.05) 177(-3.05,-1.83) 177(-3.05,-0.61) 177(-3.05,0.61) 177(-3.05,1.83) 177(-3.05,3.05) 177(-1.83,-3.05) 177(-1.83,-1.83) 177(-1.83,-0.61) 177(-1.83,0.61) 177(-1.83,1.83) 177(-1.83,3.05) 177(-0.61,-3.05) 177(-0.61,-1.83) 177(-0.61,-0.61) 177(-0.61,0.61) 177(-0.61,1.83) 177(-0.61,3.05) 177(0.61,-3.05) 177(0.61,-1.83) 177(0.61,-0.61) 177(0.61,0.61) 177(0.61,1.83) 177(0.61,3.05) 177(1.83,-3.05) 177(1.83,-1.83) 177(1.83,-0.61) 177(1.83,0.61) 177(1.83,1.83) 177(1.83,3.05) 177(3.05,-3.05) 177(3.05,-1.83) 177(3.05,-0.61) 177(3.05,0.61) 177(3.05,1.83) 177(3.05,3.05)
  rect 6.6x6.6 smd: 177(0,0)
  rect 6.6x6.6 smd far side: 177(0,0)
  rrect24% 1.06x1.06 on Top Paste: Un1(-2.64,2.64) Un2(-2.64,1.32) Un3(-2.64,0) Un4(-2.64,-1.32) Un5(-2.64,-2.64) Un6(-1.32,2.64) Un7(-1.32,1.32) Un8(-1.32,0) Un9(-1.32,-1.32) Un10(-1.32,-2.64) Un11(0,2.64) Un12(0,1.32) Un13(0,0) Un14(0,-1.32) Un15(0,-2.64) Un16(1.32,2.64) Un17(1.32,1.32) Un18(1.32,0) Un19(1.32,-1.32) Un20(1.32,-2.64) Un21(2.64,2.64) Un22(2.64,1.32) Un23(2.64,0) Un24(2.64,-1.32) Un25(2.64,-2.64)
F.SilkS:
  region: -12.725,11.16 -13.065,11.63 -12.385,11.63
  lines w0.254: -12.11,-11.16 -12.11,-12.11 -11.16,-12.11 ; -12.11,11.16 -12.11,12.11 -11.16,12.11 ; 11.16,-12.11 12.11,-12.11 12.11,-11.16 ; 11.16,12.11 12.11,12.11 12.11,11.16
Top Assembly:
  lines w0.254: -12,-12 12,-12 12,12 -11,12 -12,11 -12,-12
  text "'.Designator'" at -4.047,-0.84 h1
Top Courtyard:
  lines w0.254: -13.7,-11.15 -12.25,-11.15 -12.25,-12.25 -11.15,-12.25 -11.15,-13.7 11.15,-13.7 11.15,-12.25 12.25,-12.25 12.25,-11.15 13.7,-11.15 13.7,11.15 12.25,11.15 12.25,12.25 11.15,12.25 11.15,13.7 -11.15,13.7 -11.15,12.25 -12.25,12.25 -12.25,11.15 -13.7,11.15 -13.7,-11.15
Top Designator:
  text ".Designator" at -7.618,-0.508 h1.52

## LQFP-176_20x20mm_P0.4mm [mm]
pads (176):
  rrect25% 1.475x0.2 smd: 1(-10.713,8.6) 2(-10.713,8.2) 3(-10.713,7.8) 4(-10.713,7.4) 5(-10.713,7) 6(-10.713,6.6) 7(-10.713,6.2) 8(-10.713,5.8) 9(-10.713,5.4) 10(-10.713,5) 11(-10.713,4.6) 12(-10.713,4.2) 13(-10.713,3.8) 14(-10.713,3.4) 15(-10.713,3) 16(-10.713,2.6) 17(-10.713,2.2) 18(-10.713,1.8) 19(-10.713,1.4) 20(-10.713,1) 21(-10.713,0.6) 22(-10.713,0.2) 23(-10.713,-0.2) 24(-10.713,-0.6) 25(-10.713,-1) 26(-10.713,-1.4) 27(-10.713,-1.8) 28(-10.713,-2.2) 29(-10.713,-2.6) 30(-10.713,-3) 31(-10.713,-3.4) 32(-10.713,-3.8) 33(-10.713,-4.2) 34(-10.713,-4.6) 35(-10.713,-5) 36(-10.713,-5.4) 37(-10.713,-5.8) 38(-10.713,-6.2) 39(-10.713,-6.6) 40(-10.713,-7) 41(-10.713,-7.4) 42(-10.713,-7.8) 43(-10.713,-8.2) 44(-10.713,-8.6) 89(10.713,-8.6) 90(10.713,-8.2) 91(10.713,-7.8) 92(10.713,-7.4) 93(10.713,-7) 94(10.713,-6.6) 95(10.713,-6.2) 96(10.713,-5.8) 97(10.713,-5.4) 98(10.713,-5) 99(10.713,-4.6) 100(10.713,-4.2) 101(10.713,-3.8) 102(10.713,-3.4) 103(10.713,-3) 104(10.713,-2.6) 105(10.713,-2.2) 106(10.713,-1.8) 107(10.713,-1.4) 108(10.713,-1) 109(10.713,-0.6) 110(10.713,-0.2) 111(10.713,0.2) 112(10.713,0.6) 113(10.713,1) 114(10.713,1.4) 115(10.713,1.8) 116(10.713,2.2) 117(10.713,2.6) 118(10.713,3) 119(10.713,3.4) 120(10.713,3.8) 121(10.713,4.2) 122(10.713,4.6) 123(10.713,5) 124(10.713,5.4) 125(10.713,5.8) 126(10.713,6.2) 127(10.713,6.6) 128(10.713,7) 129(10.713,7.4) 130(10.713,7.8) 131(10.713,8.2) 132(10.713,8.6)
  rrect25% 0.2x1.475 smd: 45(-8.6,-10.713) 46(-8.2,-10.713) 47(-7.8,-10.713) 48(-7.4,-10.713) 49(-7,-10.713) 50(-6.6,-10.713) 51(-6.2,-10.713) 52(-5.8,-10.713) 53(-5.4,-10.713) 54(-5,-10.713) 55(-4.6,-10.713) 56(-4.2,-10.713) 57(-3.8,-10.713) 58(-3.4,-10.713) 59(-3,-10.713) 60(-2.6,-10.713) 61(-2.2,-10.713) 62(-1.8,-10.713) 63(-1.4,-10.713) 64(-1,-10.713) 65(-0.6,-10.713) 66(-0.2,-10.713) 67(0.2,-10.713) 68(0.6,-10.713) 69(1,-10.713) 70(1.4,-10.713) 71(1.8,-10.713) 72(2.2,-10.713) 73(2.6,-10.713) 74(3,-10.713) 75(3.4,-10.713) 76(3.8,-10.713) 77(4.2,-10.713) 78(4.6,-10.713) 79(5,-10.713) 80(5.4,-10.713) 81(5.8,-10.713) 82(6.2,-10.713) 83(6.6,-10.713) 84(7,-10.713) 85(7.4,-10.713) 86(7.8,-10.713) 87(8.2,-10.713) 88(8.6,-10.713) 133(8.6,10.713) 134(8.2,10.713) 135(7.8,10.713) 136(7.4,10.713) 137(7,10.713) 138(6.6,10.713) 139(6.2,10.713) 140(5.8,10.713) 141(5.4,10.713) 142(5,10.713) 143(4.6,10.713) 144(4.2,10.713) 145(3.8,10.713) 146(3.4,10.713) 147(3,10.713) 148(2.6,10.713) 149(2.2,10.713) 150(1.8,10.713) 151(1.4,10.713) 152(1,10.713) 153(0.6,10.713) 154(0.2,10.713) 155(-0.2,10.713) 156(-0.6,10.713) 157(-1,10.713) 158(-1.4,10.713) 159(-1.8,10.713) 160(-2.2,10.713) 161(-2.6,10.713) 162(-3,10.713) 163(-3.4,10.713) 164(-3.8,10.713) 165(-4.2,10.713) 166(-4.6,10.713) 167(-5,10.713) 168(-5.4,10.713) 169(-5.8,10.713) 170(-6.2,10.713) 171(-6.6,10.713) 172(-7,10.713) 173(-7.4,10.713) 174(-7.8,10.713) 175(-8.2,10.713) 176(-8.6,10.713)
F.SilkS:
  region: -10.725,8.96 -11.065,9.43 -10.385,9.43
  lines w0.254: -10.11,-8.96 -10.11,-10.11 -8.96,-10.11 ; -10.11,8.96 -10.11,10.11 -8.96,10.11 ; 8.96,-10.11 10.11,-10.11 10.11,-8.96 ; 8.96,10.11 10.11,10.11 10.11,8.96
Top Assembly:
  lines w0.254: -10,-10 10,-10 10,10 -9,10 -10,9 -10,-10
  text "'.Designator'" at -4.047,-0.84 h1
Top Courtyard:
  lines w0.254: -11.7,-8.95 -10.25,-8.95 -10.25,-10.25 -8.95,-10.25 -8.95,-11.7 8.95,-11.7 8.95,-10.25 10.25,-10.25 10.25,-8.95 11.7,-8.95 11.7,8.95 10.25,8.95 10.25,10.25 8.95,10.25 8.95,11.7 -8.95,11.7 -8.95,10.25 -10.25,10.25 -10.25,8.95 -11.7,8.95 -11.7,-8.95
Top Designator:
  text ".Designator" at -7.618,-0.508 h1.52

## LQFP-176_24x24mm_P0.5mm [mm]
pads (176):
  rrect25% 1.5x0.3 smd: 1(-12.675,10.75) 2(-12.675,10.25) 3(-12.675,9.75) 4(-12.675,9.25) 5(-12.675,8.75) 6(-12.675,8.25) 7(-12.675,7.75) 8(-12.675,7.25) 9(-12.675,6.75) 10(-12.675,6.25) 11(-12.675,5.75) 12(-12.675,5.25) 13(-12.675,4.75) 14(-12.675,4.25) 15(-12.675,3.75) 16(-12.675,3.25) 17(-12.675,2.75) 18(-12.675,2.25) 19(-12.675,1.75) 20(-12.675,1.25) 21(-12.675,0.75) 22(-12.675,0.25) 23(-12.675,-0.25) 24(-12.675,-0.75) 25(-12.675,-1.25) 26(-12.675,-1.75) 27(-12.675,-2.25) 28(-12.675,-2.75) 29(-12.675,-3.25) 30(-12.675,-3.75) 31(-12.675,-4.25) 32(-12.675,-4.75) 33(-12.675,-5.25) 34(-12.675,-5.75) 35(-12.675,-6.25) 36(-12.675,-6.75) 37(-12.675,-7.25) 38(-12.675,-7.75) 39(-12.675,-8.25) 40(-12.675,-8.75) 41(-12.675,-9.25) 42(-12.675,-9.75) 43(-12.675,-10.25) 44(-12.675,-10.75) 89(12.675,-10.75) 90(12.675,-10.25) 91(12.675,-9.75) 92(12.675,-9.25) 93(12.675,-8.75) 94(12.675,-8.25) 95(12.675,-7.75) 96(12.675,-7.25) 97(12.675,-6.75) 98(12.675,-6.25) 99(12.675,-5.75) 100(12.675,-5.25) 101(12.675,-4.75) 102(12.675,-4.25) 103(12.675,-3.75) 104(12.675,-3.25) 105(12.675,-2.75) 106(12.675,-2.25) 107(12.675,-1.75) 108(12.675,-1.25) 109(12.675,-0.75) 110(12.675,-0.25) 111(12.675,0.25) 112(12.675,0.75) 113(12.675,1.25) 114(12.675,1.75) 115(12.675,2.25) 116(12.675,2.75) 117(12.675,3.25) 118(12.675,3.75) 119(12.675,4.25) 120(12.675,4.75) 121(12.675,5.25) 122(12.675,5.75) 123(12.675,6.25) 124(12.675,6.75) 125(12.675,7.25) 126(12.675,7.75) 127(12.675,8.25) 128(12.675,8.75) 129(12.675,9.25) 130(12.675,9.75) 131(12.675,10.25) 132(12.675,10.75)
  rrect25% 0.3x1.5 smd: 45(-10.75,-12.675) 46(-10.25,-12.675) 47(-9.75,-12.675) 48(-9.25,-12.675) 49(-8.75,-12.675) 50(-8.25,-12.675) 51(-7.75,-12.675) 52(-7.25,-12.675) 53(-6.75,-12.675) 54(-6.25,-12.675) 55(-5.75,-12.675) 56(-5.25,-12.675) 57(-4.75,-12.675) 58(-4.25,-12.675) 59(-3.75,-12.675) 60(-3.25,-12.675) 61(-2.75,-12.675) 62(-2.25,-12.675) 63(-1.75,-12.675) 64(-1.25,-12.675) 65(-0.75,-12.675) 66(-0.25,-12.675) 67(0.25,-12.675) 68(0.75,-12.675) 69(1.25,-12.675) 70(1.75,-12.675) 71(2.25,-12.675) 72(2.75,-12.675) 73(3.25,-12.675) 74(3.75,-12.675) 75(4.25,-12.675) 76(4.75,-12.675) 77(5.25,-12.675) 78(5.75,-12.675) 79(6.25,-12.675) 80(6.75,-12.675) 81(7.25,-12.675) 82(7.75,-12.675) 83(8.25,-12.675) 84(8.75,-12.675) 85(9.25,-12.675) 86(9.75,-12.675) 87(10.25,-12.675) 88(10.75,-12.675) 133(10.75,12.675) 134(10.25,12.675) 135(9.75,12.675) 136(9.25,12.675) 137(8.75,12.675) 138(8.25,12.675) 139(7.75,12.675) 140(7.25,12.675) 141(6.75,12.675) 142(6.25,12.675) 143(5.75,12.675) 144(5.25,12.675) 145(4.75,12.675) 146(4.25,12.675) 147(3.75,12.675) 148(3.25,12.675) 149(2.75,12.675) 150(2.25,12.675) 151(1.75,12.675) 152(1.25,12.675) 153(0.75,12.675) 154(0.25,12.675) 155(-0.25,12.675) 156(-0.75,12.675) 157(-1.25,12.675) 158(-1.75,12.675) 159(-2.25,12.675) 160(-2.75,12.675) 161(-3.25,12.675) 162(-3.75,12.675) 163(-4.25,12.675) 164(-4.75,12.675) 165(-5.25,12.675) 166(-5.75,12.675) 167(-6.25,12.675) 168(-6.75,12.675) 169(-7.25,12.675) 170(-7.75,12.675) 171(-8.25,12.675) 172(-8.75,12.675) 173(-9.25,12.675) 174(-9.75,12.675) 175(-10.25,12.675) 176(-10.75,12.675)
F.SilkS:
  region: -12.712,11.16 -13.053,11.63 -12.373,11.63
  lines w0.254: -12.11,-11.16 -12.11,-12.11 -11.16,-12.11 ; -12.11,11.16 -12.11,12.11 -11.16,12.11 ; 11.16,-12.11 12.11,-12.11 12.11,-11.16 ; 11.16,12.11 12.11,12.11 12.11,11.16
Top Assembly:
  lines w0.254: -12,-12 12,-12 12,12 -11,12 -12,11 -12,-12
  text "'.Designator'" at -4.047,-0.84 h1
Top Courtyard:
  lines w0.254: -13.68,-11.15 -12.25,-11.15 -12.25,-12.25 -11.15,-12.25 -11.15,-13.68 11.15,-13.68 11.15,-12.25 12.25,-12.25 12.25,-11.15 13.68,-11.15 13.68,11.15 12.25,11.15 12.25,12.25 11.15,12.25 11.15,13.68 -11.15,13.68 -11.15,12.25 -12.25,12.25 -12.25,11.15 -13.68,11.15 -13.68,-11.15
Top Designator:
  text ".Designator" at -7.618,-0.508 h1.52